# Altium footprint library EE19-12V.PcbLib: 1 footprints
Each footprint in its own frame and in the unit in brackets; x right, y up, seen from the top. Pads: shape width x height; smd on the part's side, far side on the other; paste and mask are expansions set on the pad; w line width, h text height; cw(c..) or ccw(c..) is an arc to the next point about the centre after c.
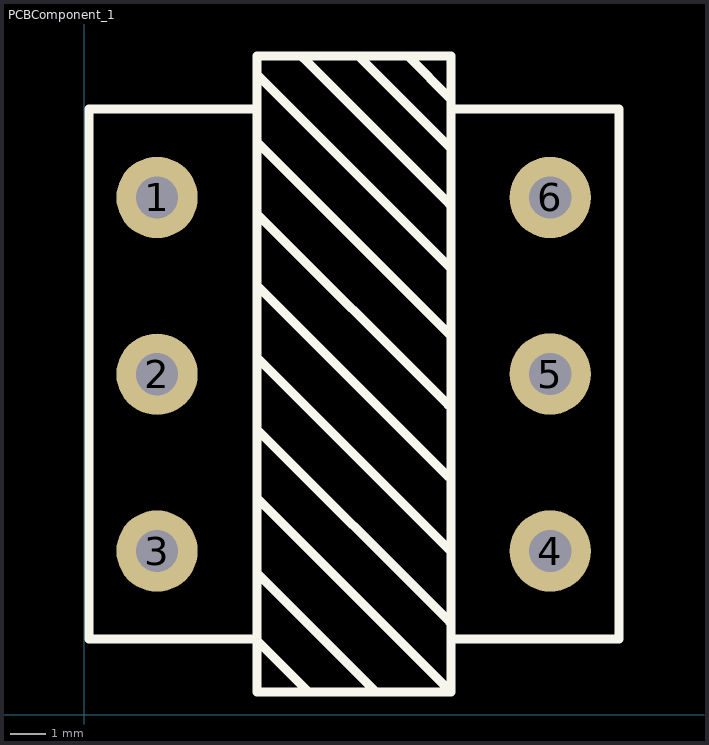
[diagram p0: the footprint, top view; thin cyan lines are the x and y axes]

## PCBComponent_1 [mm]
pads (6):
  round 2.3 hole 1.2: 1(2.056,14.628) 2(2.056,9.628) 3(2.056,4.628) 4(13.177,4.628) 5(13.177,9.635) 6(13.177,14.628)
Top Overlay:
  lines w0.254: 4.877,2.667 4.877,2.108 6.35,0.635 ; 4.877,3.124 4.877,3.175 ; 4.877,4.572 4.877,4.013 8.191,0.699 ; 4.877,6.477 4.877,6.135 10.377,0.635 ; 4.877,8.763 4.877,8.077 10.332,2.622 ; 4.877,10.795 4.877,10.109 10.351,4.635 ; 4.877,13.716 4.877,12.141 10.287,6.731 ; 4.877,15.621 4.877,14.173 10.287,8.763 ; 4.877,16.803 4.877,17.135 ; 6.177,18.588 10.332,14.433 ; 7.747,18.635 7.747,18.632 10.377,16.002 ; 8.89,18.635 9.141,18.635 10.377,17.399 ; 9.398,18.635 9.686,18.635 ; 10.332,10.75 4.877,16.205 4.877,17.135 ; 10.332,12.655 4.877,18.11 4.877,18.635 ; 4.877,2.135 4.877,17.135 ; 4.877,2.135 0.127,2.135 0.127,17.135 4.877,17.135 ; 4.877,2.135 4.877,0.635 10.377,0.635 ; 4.877,17.135 4.877,18.635 ; 4.877,18.635 10.377,18.635 10.377,17.135 ; 10.377,0.635 10.377,2.135 ; 10.377,2.135 10.377,17.135 ; 10.377,2.135 15.127,2.135 15.127,17.135 10.377,17.135
3D body "EE19.STEP": height 17.37, standoff -2.58, extent 0.113,0.002 15.113,19.302